# EAGLE library part BQ25504 (library LITTLEBITS140826)
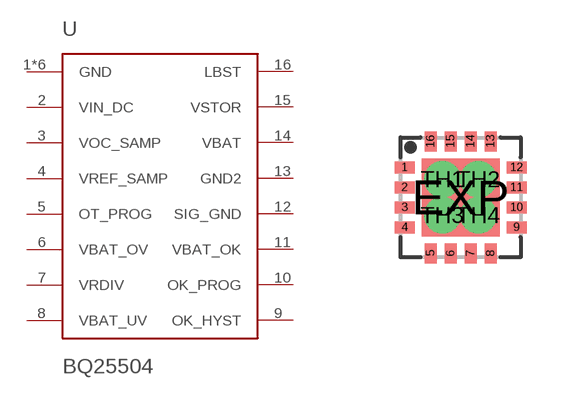
[diagram p10: symbol with the pads of QFN16; footprint QFN16]

Designator prefix -

## BQ25504 (MFG: TI)  [QFN16]
1  GND
2  VIN_DC
3  VOC_SAMP
4  VREF_SAMP
5  OT_PROG
6  VBAT_OV
7  VRDIV
8  VBAT_UV
9  OK_HYST
10  OK_PROG
11  VBAT_OK
12  SIG_GND
13  GND2
14  VBAT
15  VSTOR
16  LBST
EXP  GND
TH1  GND
TH2  GND
TH3  GND
TH4  GND

## Footprint QFN16 (pad centres in mm)
smd 0.5 x 0.3: 1 -1.4,0.75; 2 -1.4,0.25; 3 -1.4,-0.25; 4 -1.4,-0.75; 9 1.4,-0.75; 10 1.4,-0.25; 11 1.4,0.25; 12 1.4,0.75
smd 0.3 x 0.5: 5 -0.75,-1.4; 6 -0.25,-1.4; 7 0.25,-1.4; 8 0.75,-1.4; 13 0.75,1.4; 14 0.25,1.4; 15 -0.25,1.4; 16 -0.75,1.4
smd 1.95 x 1.95: EXP 0,0
drill 0.406 pad 0.406: TH1 -0.45,0.45; TH2 0.45,0.45; TH3 -0.45,-0.45; TH4 0.45,-0.45